# Altium schematic symbol library CLOCK_PIN.SchLib: 1 symbol
Pins are listed as number, name and electrical type; pins without a type are passive.

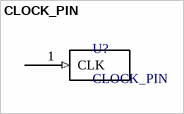
[diagram p0: symbol CLOCK_PIN]

## CLOCK_PIN
designator U?
Clock pin with IEEE symbol
pins: 1 CLK (in)